# Altium schematic symbol library MC1.SchLib: 70 symbols (part 2 of 3)
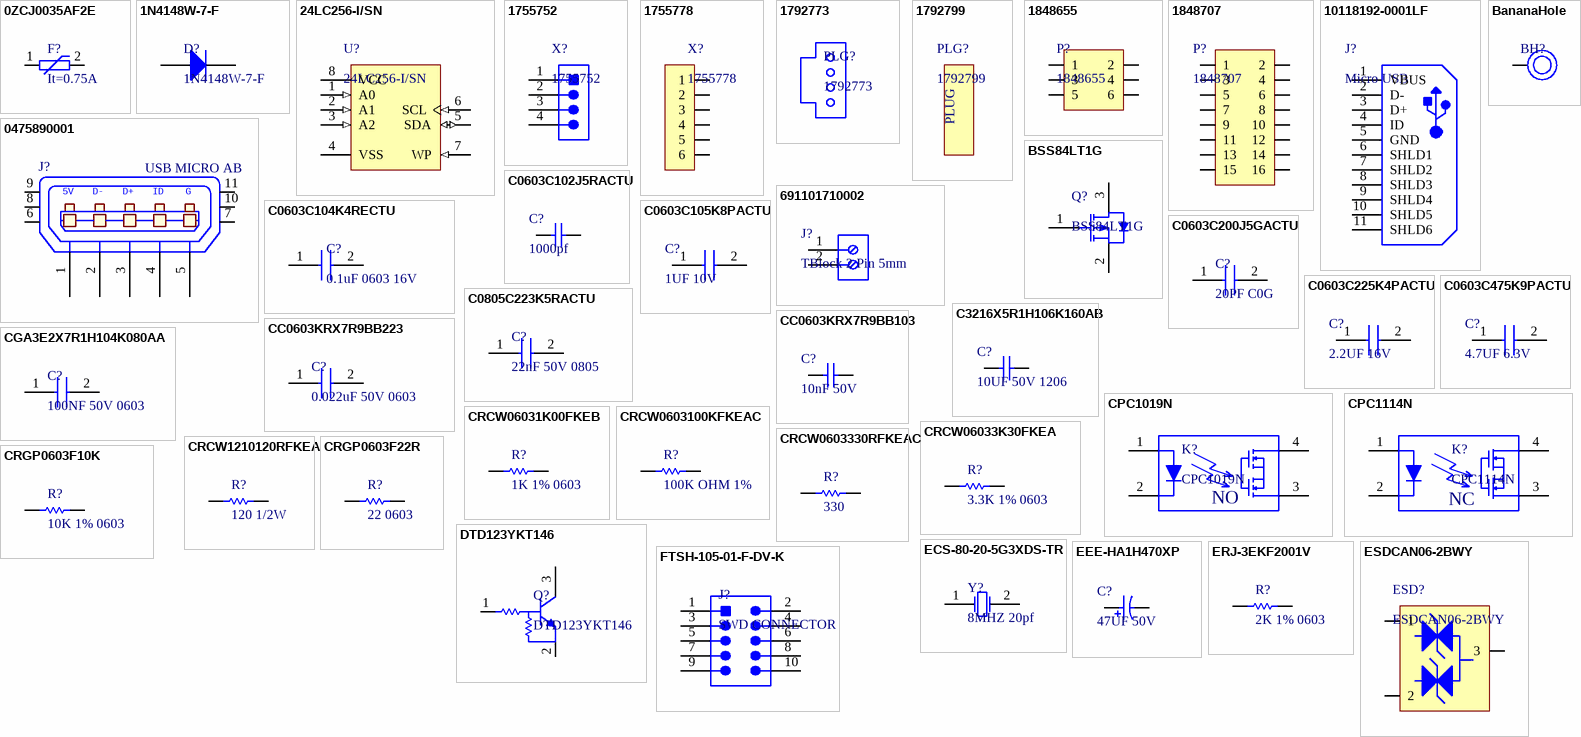
[diagram p2: symbols 0ZCJ0035AF2E to FTSH-105-01-F-DV-K]

## CPC1019N
designator K?
Relay SSR 50mA 1.4V DC-IN 0.75A 60V AC-OUT 4-Pin SOP Tube; Manufacturer: Ixys Clare; Output Current: 750mA; Throw Configuration: SPST; Isolation Voltage: 1.5kV; Supplier 1: Mouser; Supplier Part Number 1: 849-CPC1019N; Manufacturer Part Number: CPC1019N; RoHS: Yes; Category: Solid State Relays; Stock 1: 6539; Pricing 1: 1=1.76000, 10=1.61000, 20=1.47000, 50=1.41000, 100=1.34000, 200=1.19000 (USD); Mount: Surface Mount; Case/Package: SOP; Number of Pins: 4; Min Operating Temperature: -40°C; Max Operating Temperature: 85°C; Packaging: Rail/Tube; Package Quantity: 100; Termination: Gull Wing; Max Output Voltage: 60V; Input Current: 50mA; Length: 4.089mm; Height: 2.184mm; Width: 3.8mm; Radiation Hardening: No; ComponentLink1URL: http://components.arrow.com/part/dataview/0323_06647336?src-supplier=Arrow+Europe; ComponentLink1Description: http://components.arrow.com/part/dataview/0323_06647336?src-supplier=Arrow+Europe; ComponentLink2URL: http://www.mouser.com/ds/2/205/CPC1019N-594134.pdf?src-supplier=Mouser; ComponentLink2Description: http://www.mouser.com/ds/2/205/CPC1019N-594134.pdf?src-supplier=Mouser; ComponentLink3URL: http://components.arrow.com/part/dataview/47904908S477565N2018?src-supplier=Arrow; ComponentLink3Description: http://components.arrow.com/part/dataview/47904908S477565N2018?src-supplier=Arrow; ComponentLink4URL: http://www.ixysic.com/home/pdfs.nsf/www/CPC1019N.pdf/$file/CPC1019N.pdf?src-supplier=Digi-Key; ComponentLink4Description: http://www.ixysic.com/home/pdfs.nsf/www/CPC1019N.pdf/$file/CPC1019N.pdf?src-supplier=Digi-Key
footprint SOP254P610X206-4N (SOP, 4-Leads, Body 4.09x3.81mm, Pitch 2.54mm, IPC Medium Density)
pins: 1, 2, 3, 4
text: NO

## CPC1114N
designator K?
SINGLE-POLE, NORMALLY CLOSED4-LEAD SOP OPTOMOS RELAY; Manufacturer: Ixys Clare; Supplier 1: Mouser; Supplier Part Number 1: 849-CPC1114N; Manufacturer Part Number: CPC1114N; RoHS: Yes; Category: Solid State Relays; Stock 1: 6476; Pricing 1: 1=1.34000, 10=1.26000, 20=1.12000, 50=1.06000, 100=1.00000, 200=0.89600 (USD); Case/Package: SOP; Package Quantity: 100; Radiation Hardening: No; Lead Free: Lead Free; ComponentLink1URL: https://datasheet.ciiva.com/15261/cpc1114n-15261697.pdf?src-supplier=Arrow+Europe; ComponentLink1Description: https://datasheet.ciiva.com/15261/cpc1114n-15261697.pdf?src-supplier=Arrow+Europe
footprint SOP254P610X206-4N (SOP, 4-Leads, Body 4.09x3.81mm, Pitch 2.54mm, IPC Medium Density)
pins: 1, 2, 3, 4
text: NC

## CRCW06031K00FKEB
designator R?, comment 1K 1% 0603
Res Thick Film 0603 1K Ohm 1% 0.1W(1/10W) ±100ppm/C Molded SMD Automotive Paper T/R; Manufacturer: Vishay Dale; Manufacturer Part Number: CRCW06031K00FKEB; Resistance: 1kR; Power Rating: 100mW; Temperature Coefficient: 100ppm/°C; Voltage Rating: 75V; Supplier 1: Mouser; Supplier Part Number 1: 71-CRCW06031K00FKEB; RoHS: Yes; Category: Chip SMD Resistors; Stock 1: 40792; Pricing 1: 1=0.10000, 10=0.04000, 100=0.01600, 1000=0.01100, 10000=0.00600, 30000=0.00400 (USD); Mount: Surface Mount; Case/Package: 0603; Weight: 7.1E-05oz; Case Code (Imperial): 0603; Case Code (Metric): 1608; Contact Plating: Tin; Min Operating Temperature: -55°C; Max Operating Temperature: 155°C; Packaging: Tape and Reel; Tolerance: 1%; Composition: Thick Film; Termination: SMD/SMT; Voltage Rating (DC): 75V; Package Quantity: 10000; Max Power Dissipation: 100mW; Number of Terminations: 2; Military Standard: Not; Features: Automotive AEC-Q200; Length: 1.55mm; Height: 0.02inch; Width: 0.85mm; Depth: 0.85mm; Radiation Hardening: No; Lead Free: Lead Free; REACH SVHC: Unknown; ComponentLink1URL: https://datasheet.ciiva.com/5549/dcrcwe3-109170-5549464.pdf?src-supplier=Mouser; ComponentLink1Description: https://datasheet.ciiva.com/5549/dcrcwe3-109170-5549464.pdf?src-supplier=Mouser; ComponentLink2URL: https://datasheet.ciiva.com/3257/dcrcwe3-3257134.pdf?src-supplier=Avnet; ComponentLink2Description: https://datasheet.ciiva.com/3257/dcrcwe3-3257134.pdf?src-supplier=Avnet
footprint RESC1608X55X30NL10T20_B (Chip Resistor, 2-Leads, Body 1.7x0.95mm, IPC Medium Density)
pins: 1, 2

## CRCW06033K30FKEA
designator R?, comment 3.3K 1% 0603
RES SMD 3.3K OHM 1% 1/10W 0603; Manufacturer: Vishay; Manufacturer Part Number: CRCW06033K30FKEA; Resistance: 3.3kR; Temperature Coefficient: 100ppm/°C; Power Rating: 100mW; Voltage Rating: 75V; Supplier 1: Mouser; Supplier Part Number 1: 71-CRCW0603-3.3K-E3; RoHS: Yes; Category: Chip SMD Resistors; Stock 1: 44502; Pricing 1: 1=0.10000, 10=0.03700, 100=0.02000, 500=0.01200, 1000=0.00600, 5000=0.00500 (USD); Mount: Surface Mount; Case/Package: 0603; Weight: 7.1E-05oz; Case Code (Imperial): 0603; Case Code (Metric): 1608; Contact Plating: Tin,Lead; Min Operating Temperature: -55°C; Max Operating Temperature: 155°C; Tolerance: 1%; Packaging: Tape and Reel; Composition: Thick Film; Voltage Rating (DC): 75V; Number of Terminations: 2; Max Power Dissipation: 100mW; Package Quantity: 10; Termination: SMD/SMT; Military Standard: Not; Features: Automotive AEC-Q200; Working Voltage: 75V; Length: 1.55mm; Height: 0.45mm; Width: 0.85mm; Depth: 0.85mm; Radiation Hardening: No; Lead Free: Lead Free; REACH SVHC: Unknown; ComponentLink1URL: https://datasheet.ciiva.com/11808/0900766b80d98afc-11808705.pdf?src-supplier=RSComponents; ComponentLink1Description: https://datasheet.ciiva.com/11808/0900766b80d98afc-11808705.pdf?src-supplier=RSComponents; ComponentLink2URL: https://datasheet.ciiva.com/26314/fld-crcw-e3-data-en-26314711.pdf?src-supplier=Distrelec; ComponentLink2Description: https://datasheet.ciiva.com/26314/fld-crcw-e3-data-en-26314711.pdf?src-supplier=Distrelec; ComponentLink3URL: https://datasheet.ciiva.com/16200/dcrcwe3-16200585.pdf?src-supplier=Future+Electronics; ComponentLink3Description: https://datasheet.ciiva.com/16200/dcrcwe3-16200585.pdf?src-supplier=Future+Electronics; ComponentLink4URL: https://datasheet.ciiva.com/7672/1720486-7672906.pdf?src-supplier=Element14; ComponentLink4Description: https://datasheet.ciiva.com/7672/1720486-7672906.pdf?src-supplier=Element14; ComponentLink5URL: https://datasheet.ciiva.com/7673/1720486-7673146.pdf?src-supplier=Element14; ComponentLink5Description: https://datasheet.ciiva.com/7673/1720486-7673146.pdf?src-supplier=Element14; ComponentLink6URL: https://datasheet.ciiva.com/16893/dcrcw-16893324.pdf?src-supplier=Avnet+Europe; ComponentLink6Description: https://datasheet.ciiva.com/16893/dcrcw-16893324.pdf?src-supplier=Avnet+Europe
footprint RESC1608X55X30NL10T20_B (Chip Resistor, 2-Leads, Body 1.7x0.95mm, IPC Medium Density)
pins: 1, 2

## CRCW0603100KFKEAC
designator R?, comment 100K OHM 1%
RES SMD 100K OHM 1% 1/10W 0603; Manufacturer: Vishay; Manufacturer Part Number: CRCW0603100KFKEAC; Power Rating: 100mW; Resistance: 100kR; Temperature Coefficient: 100ppm/°C; RoHS: Yes; Category: Resistors; Stock 1: 901833; Pricing 1: 1=0.10000, 10=0.03300, 100=0.01300, 500=0.00800, 1000=0.00500, 5000=0.00500, 10000=0.00400 (USD); Mount: Surface Mount; Case/Package: Molded; Contact Plating: Tin; Min Operating Temperature: -55°C; Max Operating Temperature: 155°C; Tolerance: 1%; Composition: Thick Film; Termination: Wraparound; Length: 1.55mm; Lead Free: Lead Free; ComponentLink1URL: http://www.vishay.com/docs/28773/crcwce3.pdf?src-supplier=Digi-Key; ComponentLink1Description: http://www.vishay.com/docs/28773/crcwce3.pdf?src-supplier=Digi-Key; ComponentLink2URL: http://www.vishay.com/docs/20035/dcrcwe3.pdf?src-supplier=Avnet+Asia; ComponentLink2Description: http://www.vishay.com/docs/20035/dcrcwe3.pdf?src-supplier=Avnet+Asia; Supplier 1: Mouser; Supplier Part Number 1: 71-CRCW0603100KFKEAC
footprint RESC1608X55X30NL10T20_B (Chip Resistor, 2-Leads, Body 1.7x0.95mm, IPC Medium Density)
pins: 1, 2

## CRCW0603330RFKEAC
designator R?, comment 330
RES SMD 330 OHM 1% 1/10W 0603; Manufacturer: Vishay Semiconductors; Manufacturer Part Number: CRCW0603330RFKEAC; Resistance: 330R; Power Rating: 100mW; Temperature Coefficient: 100ppm/°C; Supplier 1: Mouser; RoHS: Yes; Category: Resistors; Stock 1: 108002; Pricing 1: 1=0.10000, 10=0.03000, 100=0.01200, 500=0.00700, 1000=0.00400, 5000=0.00400, 10000=0.00300 (USD); Mount: Surface Mount; Case/Package: Molded; Contact Plating: Tin; Min Operating Temperature: -55°C; Max Operating Temperature: 155°C; Composition: Thick Film; Termination: Wraparound; Tolerance: 1%; Length: 1.55mm; Lead Free: Lead Free; ComponentLink1URL: http://www.vishay.com/docs/28773/crcwce3.pdf?src-supplier=Digi-Key; ComponentLink1Description: http://www.vishay.com/docs/28773/crcwce3.pdf?src-supplier=Digi-Key; ComponentLink2URL: http://www.vishay.com/docs/20035/dcrcwe3.pdf?src-supplier=Avnet+Asia; ComponentLink2Description: http://www.vishay.com/docs/20035/dcrcwe3.pdf?src-supplier=Avnet+Asia; Supplier Part Number 1: 71-CRCW0603330RFKEAC
footprint RESC1608X55X30NL10T20_B (Chip Resistor, 2-Leads, Body 1.7x0.95mm, IPC Medium Density)
pins: 1, 2

## CRCW1210120RFKEA
designator R?, comment 120 1/2W
Thick Film Resistors - SMD 1/2watt 120ohms 1%; Manufacturer: Vishay; Manufacturer Part Number: CRCW1210120RFKEA; Resistance: 120R; Temperature Coefficient: 100ppm/°C; Power Rating: 500mW; Voltage Rating: 200V; Supplier 1: Mouser; Supplier Part Number 1: 71-CRCW1210F-120-E3; RoHS: Yes; Category: Chip SMD Resistors; Stock 1: 16273; Pricing 1: 1=0.25000, 10=0.21500, 100=0.08400, 1000=0.03200, 5000=0.02600, 10000=0.02400 (USD); Case/Package: 1210; Weight: 0.000564oz; Case Code (Metric): 3225; Case Code (Imperial): 1210; Contact Plating: Tin; Min Operating Temperature: -55°C; Max Operating Temperature: 155°C; Tolerance: 1%; Packaging: Tape and Reel; Package Quantity: 1; Composition: Thick Film; Voltage Rating (DC): 200V; Number of Terminations: 2; Max Power Dissipation: 500mW; Termination: SMD/SMT; Military Standard: Not; Features: Automotive AEC-Q200; Length: 3.2mm; Height: 0.024inch; Width: 0.098inch; Depth: 2.5mm; Radiation Hardening: No; Lead Free: Lead Free; REACH SVHC: Unknown; ComponentLink1URL: https://datasheet.ciiva.com/8899/dcrcwe3-8899640.pdf?src-supplier=Avnet; ComponentLink1Description: https://datasheet.ciiva.com/8899/dcrcwe3-8899640.pdf?src-supplier=Avnet; ComponentLink2URL: https://datasheet.ciiva.com/7777/1697337-7777595.pdf?src-supplier=Element14; ComponentLink2Description: https://datasheet.ciiva.com/7777/1697337-7777595.pdf?src-supplier=Element14; ComponentLink3URL: https://datasheet.ciiva.com/8897/dcrcwe3-8897165.pdf?src-supplier=Avnet; ComponentLink3Description: https://datasheet.ciiva.com/8897/dcrcwe3-8897165.pdf?src-supplier=Avnet; ComponentLink4URL: https://datasheet.ciiva.com/5549/dcrcwe3-109170-5549774.pdf?src-supplier=Mouser; ComponentLink4Description: https://datasheet.ciiva.com/5549/dcrcwe3-109170-5549774.pdf?src-supplier=Mouser
footprint RESC3225X60X45NL20T20 (Chip Resistor, 2-Leads, Body 3.20x2.50mm, IPC Medium Density)
pins: 1, 2

## CRGP0603F10K
designator R?, comment 10K 1% 0603
CRGP 0603 10K 1%; Manufacturer: TE Connectivity; Manufacturer Part Number: CRGP0603F10K; Supplier 1: Mouser; RoHS: No; Stock 1: 12566; Pricing 1: 1=0.10000, 10=0.03400, 100=0.02700, 500=0.02500, 1000=0.02100, 5000=0.01900, 10000=0.01600, 25000=0.01500, 50000=0.01400 (USD); ComponentLink1URL: http://www.farnell.com/datasheets/2609222.pdf?src-supplier=Farnell; ComponentLink1Description: http://www.farnell.com/datasheets/2609222.pdf?src-supplier=Farnell; ComponentLink2URL: https://www.te.com/commerce/DocumentDelivery/DDEController?Action=srchrtrv&DocNm=9-1773463-9&DocType=DS&DocLang=English&src-supplier=Digi-Key; ComponentLink2Description: https://www.te.com/commerce/DocumentDelivery/DDEController?Action=srchrtrv&DocNm=9-1773463-9&DocType=DS&DocLang=English&src-supplier=Digi-Key; Supplier Part Number 1: 279-CRGP0603F10K
footprint RESC1608X55X30NL10T20_B (Chip Resistor, 2-Leads, Body 1.7x0.95mm, IPC Medium Density)
pins: 1, 2

## CRGP0603F22R
designator R?, comment 22 0603
SMD CRGP 0603 22R 1% SMD Resistor; Manufacturer: TE Connectivity; Manufacturer Part Number: CRGP0603F22R; Supplier 1: Mouser; RoHS: No; Stock 1: 14874; Pricing 1: 1=0.10000, 10=0.03400, 100=0.02700, 500=0.02500, 1000=0.02100, 5000=0.01900, 10000=0.01600, 25000=0.01500, 50000=0.01400 (USD); Supplier Part Number 1: 279-CRGP0603F22R
footprint RESC1608X55X30NL10T20_B (Chip Resistor, 2-Leads, Body 1.7x0.95mm, IPC Medium Density)
pins: 1, 2

## DTD123YKT146
designator Q?
TRANS PREBIAS NPN 200MW SMT3; Manufacturer: Rohm; Collector Emitter Voltage (VCEO): 300mV; Element Configuration: Single; hFE Min: 56; Max Collector Current: 500mA; Collector Emitter Breakdown Voltage: 50V; Transition Frequency: 200MHz; Supplier 1: Mouser; Supplier Part Number 1: 755-DTD123YKT146; Manufacturer Part Number: DTD123YKT146; RoHS: Yes; Category: BJTs; Stock 1: 8666; Pricing 1: 1=0.38000, 10=0.28800, 100=0.15600, 1000=0.11700, 3000=0.10100, 9000=0.09500 (USD); Mount: Surface Mount; Case/Package: SMD/SMT; Number of Pins: 3; Min Operating Temperature: -55°C; Max Operating Temperature: 150°C; Packaging: Tape and Reel; Package Quantity: 1; Max Power Dissipation: 200mW; Polarity: NPN; Power Dissipation: 200mW; Max Breakdown Voltage: 50V; Voltage Rating (DC): 50V; Current Rating: 500mA; Termination: SMD/SMT; Max Output Current: 500mA; Operating Supply Voltage: 50V; Continuous Collector Current: 500mA; Length: 2.9mm; Height: 1.1mm; Width: 1.6mm; Radiation Hardening: No; REACH SVHC: No SVHC; Lead Free: Lead Free; ComponentLink1URL: https://datasheet.ciiva.com/6356/dtd123yk-6356016.pdf?src-supplier=Digi-Key; ComponentLink1Description: https://datasheet.ciiva.com/6356/dtd123yk-6356016.pdf?src-supplier=Digi-Key; ComponentLink2URL: https://datasheet.ciiva.com/16616/dtd123yk-16616256.pdf?src-supplier=Avnet+Europe; ComponentLink2Description: https://datasheet.ciiva.com/16616/dtd123yk-16616256.pdf?src-supplier=Avnet+Europe; ComponentLink3URL: https://datasheet.ciiva.com/5782/1645233-5782035.pdf?src-supplier=Farnell; ComponentLink3Description: https://datasheet.ciiva.com/5782/1645233-5782035.pdf?src-supplier=Farnell; ComponentLink4URL: https://datasheet.ciiva.com/16953/0900766b8101ddb2-16953270.pdf?src-supplier=Allied+Electronics; ComponentLink4Description: https://datasheet.ciiva.com/16953/0900766b8101ddb2-16953270.pdf?src-supplier=Allied+Electronics; ComponentLink5URL: https://datasheet.ciiva.com/12316/dtd123yk-210516-12316106.pdf?src-supplier=Mouser; ComponentLink5Description: https://datasheet.ciiva.com/12316/dtd123yk-210516-12316106.pdf?src-supplier=Mouser; ComponentLink6URL: https://datasheet.ciiva.com/8029/1645233-8029419.pdf?src-supplier=Element14; ComponentLink6Description: https://datasheet.ciiva.com/8029/1645233-8029419.pdf?src-supplier=Element14; ComponentLink7URL: https://datasheet.ciiva.com/11210/dtd123yk-11210380.pdf?src-supplier=Avnet; ComponentLink7Description: https://datasheet.ciiva.com/11210/dtd123yk-11210380.pdf?src-supplier=Avnet
footprint SOT95P280X130-3N (SOT23, 3-Leads, Body 2.90x2.80mm, Pitch 0.95mm, IPC Medium Density)
pins: 1 B, 2 E, 3 C

## ECS-80-20-5G3XDS-TR
designator Y?, comment 8MHZ 20pf
CRYSTAL 8.0000MHZ 20PF SMD; Manufacturer: ECS International; Manufacturer Part Number: ECS-80-20-5G3XDS-TR; Frequency Tolerance: 30ppm; ESR (Equivalent Series Resistance): 60R; Frequency Stability: 100ppm; Supplier 1: Mouser; Supplier Part Number 1: 520-ECS-80-20-5GXT; RoHS: Yes; Category: Crystals; Stock 1: 4314; Pricing 1: 1=0.90000, 10=0.80500, 50=0.75300, 100=0.66500, 500=0.63000, 1000=0.52500 (USD); Mount: Surface Mount; Min Operating Temperature: -40°C; Max Operating Temperature: 125°C; Package Quantity: 1; Frequency: 8MHz; Load Capacitance: 20pF; Packaging: Tape and Reel; Tolerance: 30ppm; Termination: SMD/SMT; Length: 0.449inch; Height: 0.165inch; Width: 0.185inch; ComponentLink1URL: https://datasheet.ciiva.com/852/csm-7x-3l-852790.pdf?src-supplier=Digi-Key; ComponentLink1Description: https://datasheet.ciiva.com/852/csm-7x-3l-852790.pdf?src-supplier=Digi-Key; ComponentLink2URL: https://datasheet.ciiva.com/852/csm-7x-3l-852791.pdf?src-supplier=Digi-Key; ComponentLink2Description: https://datasheet.ciiva.com/852/csm-7x-3l-852791.pdf?src-supplier=Digi-Key; ComponentLink3URL: https://datasheet.ciiva.com/852/csm-7x-3l-852792.pdf?src-supplier=Digi-Key; ComponentLink3Description: https://datasheet.ciiva.com/852/csm-7x-3l-852792.pdf?src-supplier=Digi-Key
footprint HC49US
pins: 1, 2

## EEE-HA1H470XP
designator C?, comment 47UF 50V
EEE-HA Series 50 V 47 uF Ø 6.3 x 7.7 mm 105 °C SMT V-Chip Aluminum Electrolytic; Manufacturer: Panasonic; Manufacturer Part Number: EEE-HA1H470XP; Ripple Current: 63mA; Tolerance: 20%; Life (Hours): 1000Hour; Leakage Current: 23.5uA; Polarity: Polar; Lead Diameter: 0.65mm; Supplier 1: Mouser; Supplier Part Number 1: 667-EEE-HA1H470XP; RoHS: Yes; Category: Aluminum Electrolytic Capacitors; Stock 1: 2923; Pricing 1: 1=0.50000, 10=0.34700, 100=0.11500, 900=0.10900, 1800=0.09700, 9900=0.08900 (USD); Mount: Surface Mount,PCB; Case/Package: Radial; Number of Pins: 8; Contact Plating: Tin; Min Operating Temperature: -40°C; Max Operating Temperature: 105°C; Capacitance: 47uF; Voltage Rating (DC): 50V; Packaging: Tape and Reel; Package Quantity: 900; Voltage Rating: 50V; Termination: SMD/SMT; Voltage: 50V; Ripple Current (AC): 63mA; Diameter: 6.3mm; Length: 8mm; Height: 7.7mm; Height - Seated (Max): 0.303inch; Lead Pitch: 1.8mm; Width: 650um; Radiation Hardening: No; REACH SVHC: No SVHC; Lead Free: Lead Free; ComponentLink1URL: https://datasheet.ciiva.com/11777/0900766b8102e3f9-11777524.pdf?src-supplier=RSComponents; ComponentLink1Description: https://datasheet.ciiva.com/11777/0900766b8102e3f9-11777524.pdf?src-supplier=RSComponents; ComponentLink2URL: https://datasheet.ciiva.com/27052/1358776-27052072.pdf?src-supplier=Jameco; ComponentLink2Description: https://datasheet.ciiva.com/27052/1358776-27052072.pdf?src-supplier=Jameco; ComponentLink3URL: https://datasheet.ciiva.com/2983/aba0000ce3-2983989.pdf?src-supplier=Avnet; ComponentLink3Description: https://datasheet.ciiva.com/2983/aba0000ce3-2983989.pdf?src-supplier=Avnet; ComponentLink4URL: https://datasheet.ciiva.com/28691/1446029-28691286.pdf?src-supplier=Element14; ComponentLink4Description: https://datasheet.ciiva.com/28691/1446029-28691286.pdf?src-supplier=Element14; ComponentLink5URL: https://datasheet.ciiva.com/17536/aba0000ce3-17536201.pdf?src-supplier=Avnet+Europe; ComponentLink5Description: https://datasheet.ciiva.com/17536/aba0000ce3-17536201.pdf?src-supplier=Avnet+Europe; ComponentLink6URL: https://datasheet.ciiva.com/46387/1446029-46387354.pdf?src-supplier=Element14; ComponentLink6Description: https://datasheet.ciiva.com/46387/1446029-46387354.pdf?src-supplier=Element14; ComponentLink7URL: https://datasheet.ciiva.com/5949/1446029-5949851.pdf?src-supplier=Farnell; ComponentLink7Description: https://datasheet.ciiva.com/5949/1446029-5949851.pdf?src-supplier=Farnell; ComponentLink8URL: https://datasheet.ciiva.com/11675/aba0000ce3-11675947.pdf?src-supplier=Avnet; ComponentLink8Description: https://datasheet.ciiva.com/11675/aba0000ce3-11675947.pdf?src-supplier=Avnet; ComponentLink9URL: https://datasheet.ciiva.com/43459/1446029-43459867.pdf?src-supplier=Farnell; ComponentLink9Description: https://datasheet.ciiva.com/43459/1446029-43459867.pdf?src-supplier=Farnell; ComponentLink10URL: https://datasheet.ciiva.com/28691/1446029-28691277.pdf?src-supplier=Element14; ComponentLink10Description: https://datasheet.ciiva.com/28691/1446029-28691277.pdf?src-supplier=Element14; ComponentLink11URL: https://datasheet.ciiva.com/14605/70256712-14605119.pdf?src-supplier=Allied+Electronics; ComponentLink11Description: https://datasheet.ciiva.com/14605/70256712-14605119.pdf?src-supplier=Allied+Electronics; ComponentLink12URL: https://datasheet.ciiva.com/16433/aba0000ce3-16433439.pdf?src-supplier=Future+Electronics; ComponentLink12Description: https://datasheet.ciiva.com/16433/aba0000ce3-16433439.pdf?src-supplier=Future+Electronics; ComponentLink13URL: https://datasheet.ciiva.com/30227/33aba0000ce3-30227599.pdf?src-supplier=Onlinecomponents.com; ComponentLink13Description: https://datasheet.ciiva.com/30227/33aba0000ce3-30227599.pdf?src-supplier=Onlinecomponents.com
footprint PNSC-EEE-HA1H470XP-2_V (SMD, 2-Leads, Body 6.6x6.6mm, Height 8mm)
pins: 1, 2

## ERJ-3EKF2001V
designator R?, comment 2K 1% 0603
RES SMD 2K OHM 1% 1/10W 0603; Manufacturer: Panasonic; Manufacturer Part Number: ERJ-3EKF2001V; Resistance: 2kR; Temperature Coefficient: 100ppm/°C; Power Rating: 100mW; Voltage Rating: 75V; Voltage Rating (DC): 50V; Supplier 1: Mouser; Supplier Part Number 1: 667-ERJ-3EKF2001V; RoHS: Yes; Category: Chip SMD Resistors; Stock 1: 377285; Pricing 1: 1=0.10000, 10=0.06400, 100=0.02600, 1000=0.01100, 5000=0.00700, 10000=0.00600 (USD); Mount: Surface Mount; Case/Package: 0603; Case Code (Metric): 1608; Case Code (Imperial): 0603; Contact Plating: Tin; Min Operating Temperature: -55°C; Max Operating Temperature: 155°C; Packaging: Tape and Reel; Tolerance: 1%; Composition: Thick Film; Termination: SMD/SMT; Package Quantity: 1; Number of Terminations: 2; Max Power Dissipation: 100mW; Military Standard: Not; Features: Automotive AEC-Q200; Length: 1.6mm; Height: 0.022inch; Width: 0.031inch; Depth: 0.8mm; Radiation Hardening: No; Lead Free: Lead Free; REACH SVHC: No SVHC; ComponentLink1URL: https://datasheet.ciiva.com/16200/aoa0000ce2-16200501.pdf?src-supplier=Future+Electronics; ComponentLink1Description: https://datasheet.ciiva.com/16200/aoa0000ce2-16200501.pdf?src-supplier=Future+Electronics; ComponentLink2URL: https://datasheet.ciiva.com/43460/1678782-43460485.pdf?src-supplier=Farnell; ComponentLink2Description: https://datasheet.ciiva.com/43460/1678782-43460485.pdf?src-supplier=Farnell; ComponentLink3URL: https://datasheet.ciiva.com/28673/1678782-28673990.pdf?src-supplier=Element14; ComponentLink3Description: https://datasheet.ciiva.com/28673/1678782-28673990.pdf?src-supplier=Element14; ComponentLink4URL: https://datasheet.ciiva.com/46377/1678782-46377366.pdf?src-supplier=Element14; ComponentLink4Description: https://datasheet.ciiva.com/46377/1678782-46377366.pdf?src-supplier=Element14; ComponentLink5URL: https://datasheet.ciiva.com/30064/aoa0000ce2-30064920.pdf?src-supplier=Onlinecomponents.com; ComponentLink5Description: https://datasheet.ciiva.com/30064/aoa0000ce2-30064920.pdf?src-supplier=Onlinecomponents.com; ComponentLink6URL: https://datasheet.ciiva.com/16771/70260748-16771369.pdf?src-supplier=Allied+Electronics; ComponentLink6Description: https://datasheet.ciiva.com/16771/70260748-16771369.pdf?src-supplier=Allied+Electronics; ComponentLink7URL: https://datasheet.ciiva.com/17214/aoa0000ce2-17214393.pdf?src-supplier=Avnet+Europe; ComponentLink7Description: https://datasheet.ciiva.com/17214/aoa0000ce2-17214393.pdf?src-supplier=Avnet+Europe; ComponentLink8URL: https://datasheet.ciiva.com/6082/1678782-6082059.pdf?src-supplier=Farnell; ComponentLink8Description: https://datasheet.ciiva.com/6082/1678782-6082059.pdf?src-supplier=Farnell; ComponentLink9URL: https://datasheet.ciiva.com/24027/aoa0000ce2-24027453.pdf?src-supplier=Mouser; ComponentLink9Description: https://datasheet.ciiva.com/24027/aoa0000ce2-24027453.pdf?src-supplier=Mouser
footprint RESC1608X55X30NL10T20_B (Chip Resistor, 2-Leads, Body 1.7x0.95mm, IPC Medium Density)
pins: 1, 2

## ESDCAN06-2BWY
designator ESD?
TVS DIODE 35V 59V SOT323-3; Manufacturer: STMicroelectronics; Supplier 1: Mouser; Supplier Part Number 1: 511-ESDCAN06-2BWY; Manufacturer Part Number: ESDCAN06-2BWY; RoHS: No; Category: TVS Diodes; Stock 1: 4203; Pricing 1: 1=0.42000, 10=0.29500, 100=0.13600, 1000=0.10400, 3000=0.08900, 9000=0.08100 (USD); ComponentLink1URL: https://www.st.com/resource/en/datasheet/esdcan06-2bwy.pdf?src-supplier=Digi-Key; ComponentLink1Description: https://www.st.com/resource/en/datasheet/esdcan06-2bwy.pdf?src-supplier=Digi-Key
footprint SOT65P210X110-3N (SOT23, 3-Leads, Body 2.00x2.10mm, Pitch 0.65mm, IPC Medium Density)
pins: 1, 2, 3

## FTSH-105-01-F-DV-K
designator J?, comment SWD CONNECTOR
SAMTEC - FTSH-105-01-F-DV-K - HEADER, 1.27 MM, SURFACE MOUNT, 10 CONTACTS; Number of Contacts: 10; Connector Type: Male Pin; Max Current Rating: 1.75A; Pitch: 1.27mm; Row Spacing: 0.05inch; Supplier 1: Mouser; Supplier Part Number 1: 200-FTSH10501FDVK; Manufacturer: Samtec; Manufacturer Part Number: FTSH-105-01-F-DV-K; RoHS: Yes; Category: Headers and Wire Housings; Stock 1: 5484; Pricing 1: 1=3.02000, 10=2.55000, 25=2.20000, 100=1.97000, 250=1.86000, 500=1.62000 (USD); Mount: Surface Mount; Contact Plating: Gold; Contact Material: Copper,Bronze; Housing Color: Black; Housing Material: Polymer; Color: Black; Min Operating Temperature: -55°C; Max Operating Temperature: 125°C; Number of Rows: 2; Termination: Solder; Packaging: Rail/Tube; Orientation: Straight; Number of Positions: 10; Package Quantity: 1; Length: 15.2mm; Height: 3.3mm; Depth: 3.43mm; Contact Mating Length: 0.12inch; Radiation Hardening: No; Lead Free: Lead Free; ComponentLink1URL: https://datasheet.ciiva.com/19461/2046846-19461026.pdf?src-supplier=Jameco; ComponentLink1Description: https://datasheet.ciiva.com/19461/2046846-19461026.pdf?src-supplier=Jameco; ComponentLink2URL: https://datasheet.ciiva.com/738/ftsh-1xx-xx-xxx-dv-xxx-mkt-738998.pdf?src-supplier=Digi-Key; ComponentLink2Description: https://datasheet.ciiva.com/738/ftsh-1xx-xx-xxx-dv-xxx-mkt-738998.pdf?src-supplier=Digi-Key; ComponentLink3URL: https://datasheet.ciiva.com/10245/ftsh-mt-10245273.pdf?src-supplier=Avnet; ComponentLink3Description: https://datasheet.ciiva.com/10245/ftsh-mt-10245273.pdf?src-supplier=Avnet; ComponentLink4URL: https://datasheet.ciiva.com/16657/ftsh-mt-16657371.pdf?src-supplier=Avnet+Europe; ComponentLink4Description: https://datasheet.ciiva.com/16657/ftsh-mt-16657371.pdf?src-supplier=Avnet+Europe; ComponentLink5URL: https://datasheet.ciiva.com/15195/getdatasheetpartid-133463-15195260.pdf?src-supplier=Verical; ComponentLink5Description: https://datasheet.ciiva.com/15195/getdatasheetpartid-133463-15195260.pdf?src-supplier=Verical
footprint SMTC-FTSH-105-01-L-DV-K_V (CONN, 10-Leads, Body 6.35x3.43mm, Pitch 1.27mm)
pins: 1, 2, 3, 4, 5, 6, 7, 8, 9, 10

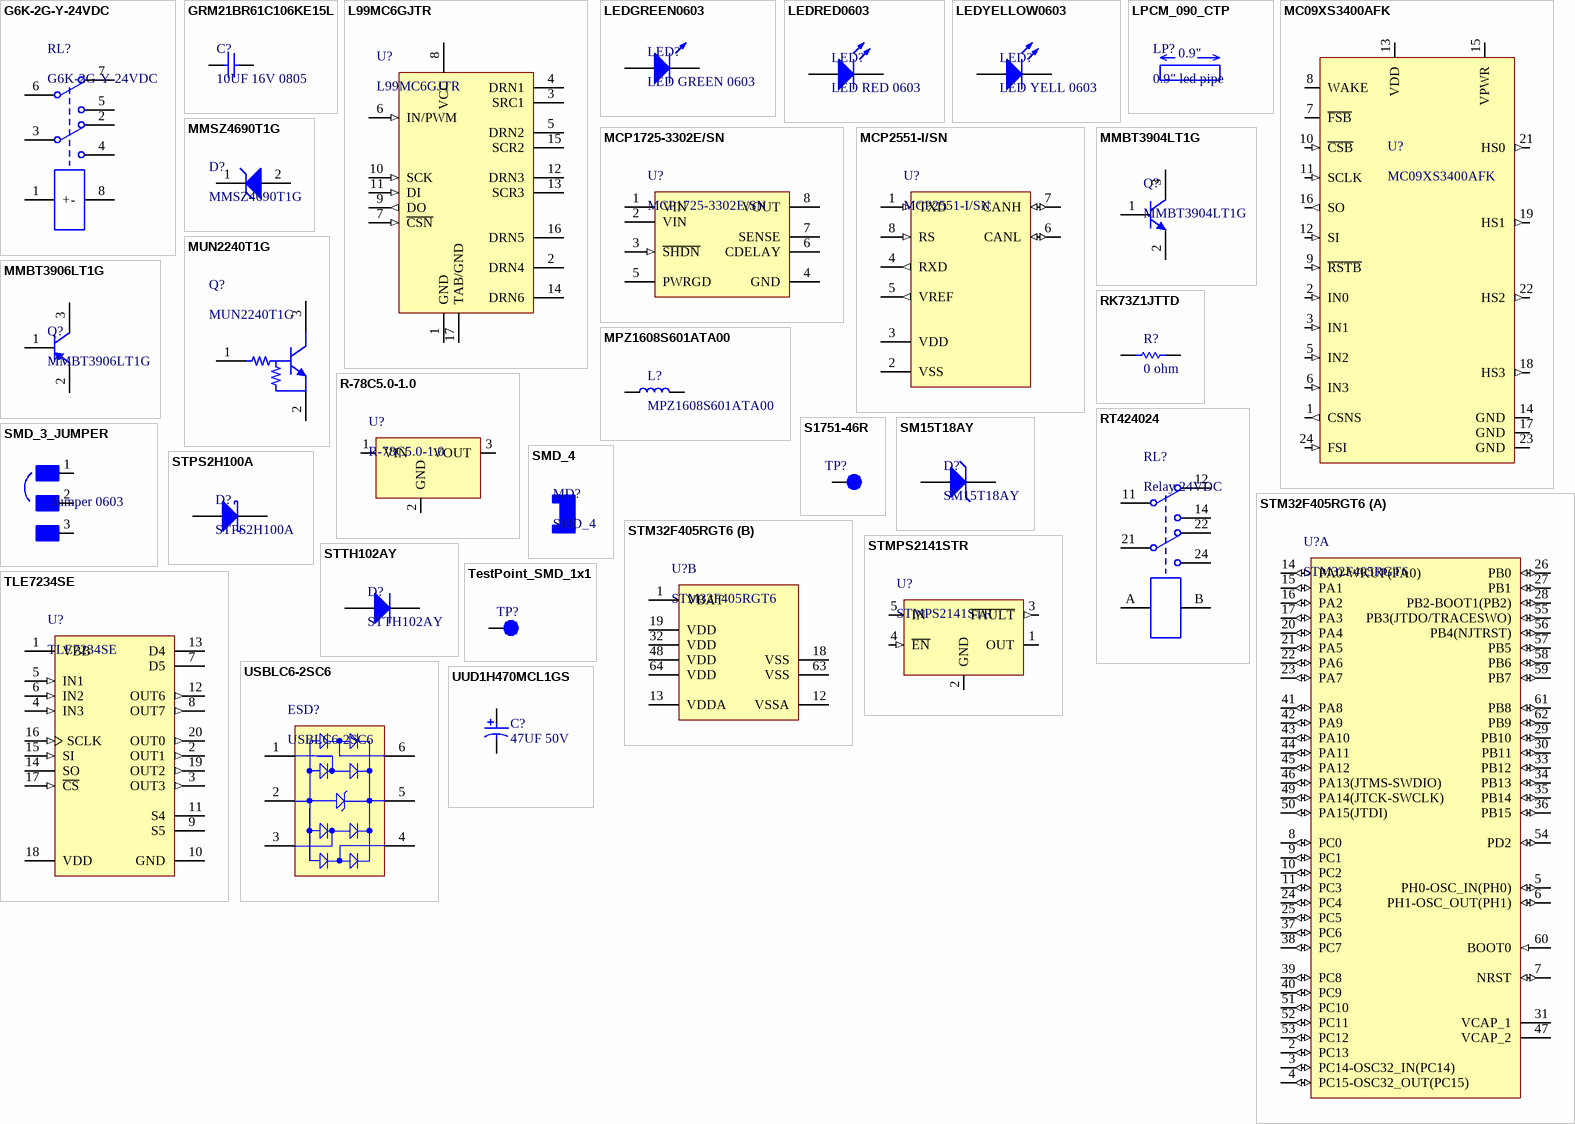
[diagram p1: symbols G6K-2G-Y-24VDC to UUD1H470MCL1GS]

## G6K-2G-Y-24VDC
designator RL?
Electromechanical Relay DPDT 1A 24VDC 5.22KOhm Surface Mount; Manufacturer: Omron; Manufacturer Part Number: G6K-2F-YDC24; Coil Current: 4.6mA; Coil Resistance: 5.22kR; Coil Voltage (DC): 24V; Max Voltage Rating (AC): 125V; Max Voltage Rating (DC): 60V; Operate Time: 3ms; Coil Type: Non-Latching; Relay Type: Telecom; Coil Power: 100mW; Supplier 1: Mouser; Supplier Part Number 1: 653-G6K-2F-Y-DC24; RoHS: Yes; Category: Signal Relays; Mount: Surface Mount; Number of Pins: 8; Weight: 0.024692oz; Contact Material: Gold,Silver; Min Operating Temperature: -40°C; Max Operating Temperature: 70°C; Packaging: Rail/Tube; Throw Configuration: DPDT; Max Current Rating: 1A; Contact Current Rating: 1A; Termination: Gull Wing; Package Quantity: 50; Release Time: 3ms; Power Consumption: 100mW; Voltage Rating (AC): 125V; Voltage Rating (DC): 60V; Length: 10mm; Depth: 7.8mm; Radiation Hardening: No; Lead Free: Lead Free; ComponentLink1URL: https://datasheet.ciiva.com/30066/81en-g6k-30066045.pdf?src-supplier=Onlinecomponents.com; ComponentLink1Description: https://datasheet.ciiva.com/30066/81en-g6k-30066045.pdf?src-supplier=Onlinecomponents.com
footprint G6K-2F-Y (Footprint for G6K-2F-Y Omrom relays)
pins: 1 +, 2, 3, 4, 5, 6, 7, 8 -

## GRM21BR61C106KE15L
designator C?, comment 10UF 16V 0805
CAP CER 10UF 16V X5R 0805; Manufacturer: Murata; Manufacturer Part Number: GRM21BR61C106KE15L; Material: Ceramic; Tolerance: 10%; Supplier 1: Mouser; Supplier Part Number 1: 81-GRM21BR61C106KE15; RoHS: Yes; Category: Ceramic Capacitors; Stock 1: 1115526; Pricing 1: 1=0.31000, 10=0.21500, 100=0.12000, 500=0.08600, 1000=0.07500, 3000=0.06200 (USD); Mount: Surface Mount; Case/Package: 0805; Case Code (Imperial): 0805; Case Code (Metric): 2012; Min Operating Temperature: -55°C; Max Operating Temperature: 85°C; Capacitance: 10uF; Packaging: Tape and Reel; Voltage Rating: 16V; Dielectric: X5R; Voltage Rating (DC): 16V; Package Quantity: 1; Termination: SMD/SMT; Voltage: 16V; Length: 2mm; Height: 1.25mm; Width: 1.25mm; Thickness: 0.053inch; Depth: 1.25mm; Radiation Hardening: No; REACH SVHC: No SVHC; Lead Free: Lead Free; ComponentLink1URL: https://datasheet.ciiva.com/2989/product-2989696.pdf?src-supplier=Avnet; ComponentLink1Description: https://datasheet.ciiva.com/2989/product-2989696.pdf?src-supplier=Avnet; ComponentLink2URL: https://datasheet.ciiva.com/3777/1956grm21br61c106ke1523-3777137.pdf?src-supplier=Arrow; ComponentLink2Description: https://datasheet.ciiva.com/3777/1956grm21br61c106ke1523-3777137.pdf?src-supplier=Arrow; ComponentLink3URL: https://datasheet.ciiva.com/7719/1747468-7719090.pdf?src-supplier=Element14; ComponentLink3Description: https://datasheet.ciiva.com/7719/1747468-7719090.pdf?src-supplier=Element14; ComponentLink4URL: https://datasheet.ciiva.com/23628/460993-23628598.pdf?src-supplier=Newark; ComponentLink4Description: https://datasheet.ciiva.com/23628/460993-23628598.pdf?src-supplier=Newark; ComponentLink5URL: https://datasheet.ciiva.com/29202/450891-da-01-de-vs-chip-kond-0805-10-0-uf-10pr-16-0v-x5r-29202696.pdf?src-supplier=Conrad; ComponentLink5Description: https://datasheet.ciiva.com/29202/450891-da-01-de-vs-chip-kond-0805-10-0-uf-10pr-16-0v-x5r-29202696.pdf?src-supplier=Conrad; ComponentLink6URL: https://datasheet.ciiva.com/29199/454607-da-01-en-vs-kondensator-0805-29199611.pdf?src-supplier=Conrad; ComponentLink6Description: https://datasheet.ciiva.com/29199/454607-da-01-en-vs-kondensator-0805-29199611.pdf?src-supplier=Conrad; ComponentLink7URL: https://datasheet.ciiva.com/2989/product-2989697.pdf?src-supplier=Avnet; ComponentLink7Description: https://datasheet.ciiva.com/2989/product-2989697.pdf?src-supplier=Avnet; ComponentLink8URL: https://datasheet.ciiva.com/137/partnumbering-e-01-137917.pdf?src-supplier=Digi-Key; ComponentLink8Description: https://datasheet.ciiva.com/137/partnumbering-e-01-137917.pdf?src-supplier=Digi-Key; ComponentLink9URL: https://datasheet.ciiva.com/137/partnumbering-e-01-137918.pdf?src-supplier=Digi-Key; ComponentLink9Description: https://datasheet.ciiva.com/137/partnumbering-e-01-137918.pdf?src-supplier=Digi-Key; ComponentLink10URL: https://datasheet.ciiva.com/137/partnumbering-e-01-137919.pdf?src-supplier=Digi-Key; ComponentLink10Description: https://datasheet.ciiva.com/137/partnumbering-e-01-137919.pdf?src-supplier=Digi-Key
footprint CAPC2012X14M (Chip Capacitor, 2-Leads, Body 2.00x1.25mm, IPC Low Density)
pins: 1, 2

## L99MC6GJTR
designator U?
IC HI/LO SIDE DVR 6CH POWERSSO16; Manufacturer: STMicroelectronics; Number of Outputs: 6; Interface: SPI; Max Output Current: 600mA; Fault Protection: Over Temperature; Supplier 1: Mouser; Supplier Part Number 1: 511-L99MC6GJTR; Manufacturer Part Number: L99MC6GJTR; RoHS: Yes; Category: Motor Drivers; Stock 1: 3165; Pricing 1: 1=2.51000, 10=2.13000, 100=1.70000, 500=1.49000, 1000=1.23000, 2500=1.15000 (USD); Number of Pins: 16; Min Operating Temperature: -40°C; Max Operating Temperature: 150°C; Packaging: Tape and Reel; ComponentLink1URL: http://www.st.com/st-web-ui/static/active/en/resource/technical/document/datasheet/DM00130912.pdf?src-supplier=Avnet; ComponentLink1Description: http://www.st.com/st-web-ui/static/active/en/resource/technical/document/datasheet/DM00130912.pdf?src-supplier=Avnet; ComponentLink2URL: http://www.st.com/content/ccc/resource/technical/document/datasheet/ba/55/91/a7/d6/2c/47/05/DM00130912.pdf/files/DM00130912.pdf/jcr:content/translations/en.DM00130912.pdf?src-supplier=Digi-Key; ComponentLink2Description: http://www.st.com/content/ccc/resource/technical/document/datasheet/ba/55/91/a7/d6/2c/47/05/DM00130912.pdf/files/DM00130912.pdf/jcr:content/translations/en.DM00130912.pdf?src-supplier=Digi-Key
footprint PowerSSO-16 (SSOP, 16-Leads, Body 4.90x3.90mm, Pitch 0.50mm, Thermal Pad 4.20x2.50mm, IPC Medium Density)
pins: 1 GND (power), 2 DRN4, 3 SRC1, 4 DRN1, 5 DRN2, 6 IN/PWM (in), 7 ~{CSN} (in), 8 VCC (power), 9 DO (out), 10 SCK (in), 11 DI (in), 12 DRN3, 13 SCR3, 14 DRN6, 15 SCR2, 16 DRN5, 17 TAB/GND (power)

## LEDGREEN0603
designator LED?, comment LED GREEN 0603
WURTH ELEKTRONIK - 150060GS75000 - LED, 0603, GREEN, 430MCD, 520NM; Manufacturer: Wurth Electronics; Viewing Angle: 140°; Lens Style: Clear,Rectangular; Forward Voltage: 3.2V; Forward Current: 30mA; Test Current: 20mA; Supplier 1: Mouser; Supplier Part Number 1: 710-150060GS75000; Manufacturer Part Number: 150060GS75000; RoHS: Yes; Category: LEDs; Stock 1: 24564; Pricing 1: 1=0.15000, 10=0.14200, 25=0.14200, 50=0.13300, 100=0.11400, 250=0.10000 (USD); Mount: Surface Mount; Case/Package: 0603; Color: Green; Case Code (Metric): 1608; Case Code (Imperial): 0603; Min Operating Temperature: -40°C; Max Operating Temperature: 85°C; Packaging: Tape and Reel; Luminous Intensity: 430mcd; Dominant Wavelength: 520nm; Package Quantity: 4000; Wavelength: 520nm; Length: 1.6mm; Height: 0.7mm; Width: 0.8mm; Lead Free: Lead Free; REACH SVHC: Unknown; ComponentLink1URL: https://datasheet.ciiva.com/29562/150060gs75000-29562868.pdf?src-supplier=Digi-Key; ComponentLink1Description: https://datasheet.ciiva.com/29562/150060gs75000-29562868.pdf?src-supplier=Digi-Key; ComponentLink2URL: https://datasheet.ciiva.com/29279/759427-da-01-en-chipled-0603-w-kl-gruen-150060gs75000-29279201.pdf?src-supplier=Conrad; ComponentLink2Description: https://datasheet.ciiva.com/29279/759427-da-01-en-chipled-0603-w-kl-gruen-150060gs75000-29279201.pdf?src-supplier=Conrad; ComponentLink3URL: https://datasheet.ciiva.com/29562/150060gs75000-29562869.pdf?src-supplier=Digi-Key; ComponentLink3Description: https://datasheet.ciiva.com/29562/150060gs75000-29562869.pdf?src-supplier=Digi-Key; ComponentLink4URL: https://datasheet.ciiva.com/29562/150060gs75000-29562870.pdf?src-supplier=Digi-Key; ComponentLink4Description: https://datasheet.ciiva.com/29562/150060gs75000-29562870.pdf?src-supplier=Digi-Key
footprint LED0603_GREEN (Chip LED, 2-Leads, Body 1.6x0.8mm, IPC Medium Density)
pins: 1 K, 2 A

## LEDRED0603
designator LED?, comment LED RED 0603
WURTH ELEKTRONIK - 150060RS75000 - LED, 0603, RED, 250MCD, 625NM; Manufacturer: Wurth Electronics; Lens Style: Clear,Rectangular; Forward Voltage: 2V; Viewing Angle: 140°; Forward Current: 30mA; Test Current: 20mA; Supplier 1: Mouser; Supplier Part Number 1: 710-150060RS75000; Manufacturer Part Number: 150060RS75000; RoHS: Yes; Category: LEDs; Stock 1: 84194; Pricing 1: 1=0.14000, 10=0.14000, 25=0.14000, 50=0.13300, 100=0.11400, 250=0.10000 (USD); Mount: Surface Mount; Case/Package: 0603; Color: Red; Case Code (Metric): 1608; Case Code (Imperial): 0603; Min Operating Temperature: -40°C; Max Operating Temperature: 85°C; Packaging: Cut Tape; Luminous Intensity: 250mcd; Dominant Wavelength: 625nm; Package Quantity: 1; Wavelength: 625nm; Length: 1.6mm; Height: 0.7mm; Width: 0.8mm; REACH SVHC: Unknown; ComponentLink1URL: https://datasheet.ciiva.com/29563/150060rs75000-29563040.pdf?src-supplier=Digi-Key; ComponentLink1Description: https://datasheet.ciiva.com/29563/150060rs75000-29563040.pdf?src-supplier=Digi-Key; ComponentLink2URL: https://datasheet.ciiva.com/29279/759428-da-01-en-chipled-0603-w-kl-rot-150060rs75000-29279196.pdf?src-supplier=Conrad; ComponentLink2Description: https://datasheet.ciiva.com/29279/759428-da-01-en-chipled-0603-w-kl-rot-150060rs75000-29279196.pdf?src-supplier=Conrad
footprint LED0603_RED (Chip LED, 2-Leads, Body 1.6x0.8mm, IPC Medium Density)
pins: 1 K, 2 A

## LEDYELLOW0603
designator LED?, comment LED YELL 0603
WURTH ELEKTRONIK - 150060YS75000 - LED, 0603, YELLOW, 120MCD, 590NM; Manufacturer: Wurth Electronics; Viewing Angle: 140°; Lens Style: Clear,Rectangular; Forward Voltage: 2V; Forward Current: 30mA; Test Current: 20mA; Supplier 1: Mouser; Supplier Part Number 1: 710-150060YS75000; Manufacturer Part Number: 150060YS75000; RoHS: Yes; Category: LEDs; Stock 1: 25592; Pricing 1: 1=0.14000, 10=0.13800, 25=0.13800, 50=0.12900, 100=0.11000, 250=0.10000 (USD); Mount: Surface Mount; Case/Package: 0603; Color: Yellow; Case Code (Metric): 1608; Case Code (Imperial): 0603; Min Operating Temperature: -40°C; Max Operating Temperature: 85°C; Packaging: Tape and Reel; Luminous Intensity: 120mcd; Dominant Wavelength: 590nm; Package Quantity: 4000; Wavelength: 590nm; Length: 1.6mm; Height: 0.7mm; Width: 0.8mm; REACH SVHC: Unknown; ComponentLink1URL: https://datasheet.ciiva.com/23843/150060ys75000-23843250.pdf?src-supplier=Newark; ComponentLink1Description: https://datasheet.ciiva.com/23843/150060ys75000-23843250.pdf?src-supplier=Newark; ComponentLink2URL: https://datasheet.ciiva.com/29279/759432-da-01-en-chipled-0603-w-kl-gelb-150060ys75000-29279206.pdf?src-supplier=Conrad; ComponentLink2Description: https://datasheet.ciiva.com/29279/759432-da-01-en-chipled-0603-w-kl-gelb-150060ys75000-29279206.pdf?src-supplier=Conrad; ComponentLink3URL: https://datasheet.ciiva.com/29563/150060ys75000-29563045.pdf?src-supplier=Digi-Key; ComponentLink3Description: https://datasheet.ciiva.com/29563/150060ys75000-29563045.pdf?src-supplier=Digi-Key; ComponentLink4URL: https://datasheet.ciiva.com/48430/150060ys75000-eng-tds-48430044.pdf?src-supplier=Distrelec; ComponentLink4Description: https://datasheet.ciiva.com/48430/150060ys75000-eng-tds-48430044.pdf?src-supplier=Distrelec; ComponentLink5URL: https://datasheet.ciiva.com/22656/1911348-22656951.pdf?src-supplier=Element14; ComponentLink5Description: https://datasheet.ciiva.com/22656/1911348-22656951.pdf?src-supplier=Element14; ComponentLink6URL: https://datasheet.ciiva.com/29563/150060ys75000-29563033.pdf?src-supplier=Digi-Key; ComponentLink6Description: https://datasheet.ciiva.com/29563/150060ys75000-29563033.pdf?src-supplier=Digi-Key
footprint LED0603_YELLOW (Chip LED, 2-Leads, Body 1.6x0.8mm, IPC Medium Density)
pins: 1 K, 2 A

## LPCM_090_CTP
designator LP?, comment 0.9" led pipe  (mechanical)
LED Light Pipes Round 4mm Litepipe .900"; Manufacturer: Visual Communications; Manufacturer Part Number: LPCM_090_CTP; Supplier 1: Mouser; Supplier Part Number 1: 593-LPCM090CTP; RoHS: Yes; Category: LEDs; Stock 1: 8497; Pricing 1: 1=0.72000, 10=0.55800, 25=0.46300, 100=0.39900, 250=0.35100, 500=0.30300 (USD); Color: Clear; Packaging: Bulk; Package Quantity: 1000; ComponentLink1URL: https://datasheet.ciiva.com/29556/lpcmdatasheet-29556743.pdf?src-supplier=Digi-Key; ComponentLink1Description: https://datasheet.ciiva.com/29556/lpcmdatasheet-29556743.pdf?src-supplier=Digi-Key
text: 0.9"

## MC09XS3400AFK
designator U?
Power Switch ICs - Power Distribution QUAD HIGH SIDE ESWITCH; Manufacturer: NXP Freescale; Number of Outputs: 4; Interface: SPI,Serial,Parallel; Nominal Supply Current: 7.2mA; Fault Protection: Over Voltage,Over Temperature; Max Supply Current: 10mA; Operating Supply Voltage: 20V; Supplier 1: Mouser; Supplier Part Number 1: 841-MC09XS3400AFK; Manufacturer Part Number: MC09XS3400AFK; RoHS: Yes; Category: Hot Swap Controllers; Stock 1: 354; Pricing 1: 1=7.84000, 10=7.08000, 25=6.36000, 100=5.87000, 250=5.77000, 500=5.11000 (USD); Mount: Surface Mount; Case/Package: QFN; Number of Pins: 24; Weight: 0.03274oz; Min Operating Temperature: -40°C; Max Operating Temperature: 125°C; Packaging: Tray; Package Quantity: 168; Output Configuration: High Side; Halogen Free: Halogen Free; ComponentLink1URL: https://datasheet.ciiva.com/12186/mc09xs3400-222130-12186694.pdf?src-supplier=Mouser; ComponentLink1Description: https://datasheet.ciiva.com/12186/mc09xs3400-222130-12186694.pdf?src-supplier=Mouser; ComponentLink2URL: https://datasheet.ciiva.com/6607/mc09xs3400-6607546.pdf?src-supplier=Digi-Key; ComponentLink2Description: https://datasheet.ciiva.com/6607/mc09xs3400-6607546.pdf?src-supplier=Digi-Key
footprint PQFN_24_12X12x2.1_0_9MM
pins: 1 CSNS (out), 2 IN0 (in), 3 IN1 (in), 5 IN2 (in), 6 IN3 (in), 7 ~{FSB} (oc), 8 WAKE, 9 ~{RSTB} (in), 10 ~{CSB} (in), 11 SCLK (in), 12 SI (in), 13 VDD (power), 14 GND (power), 15 VPWR (power), 16 SO (out), 17 GND (power), 18 HS3 (out), 19 HS1 (out), 21 HS0 (out), 22 HS2 (out), 23 GND (power), 24 FSI (in)

## MCP1725-3302E/SN
designator U?
IC REG LINEAR 3.3V 500MA 8SOIC; Manufacturer: Microchip; Number of Outputs: 1; Min Input Voltage: 2.3V; Max Input Voltage: 6V; Dropout Voltage: 210mV; Nominal Supply Current: 120uA; Quiescent Current: 220uA; Polarity: Positive; Accuracy: 2%; Output Type: Fixed; Sensing Method: Resistive; Supplier 1: Mouser; Supplier Part Number 1: 579-MCP1725-3302E/SN; Manufacturer Part Number: MCP1725-3302E/SN; RoHS: Yes; Category: Voltage Regulators - Linear; Stock 1: 1446; Pricing 1: 1=0.51000, 10=0.51000, 25=0.43000, 100=0.39000, 250=0.39000, 500=0.39000 (USD); Mount: Surface Mount; Case/Package: SOIC; Number of Pins: 8; Min Operating Temperature: -40°C; Max Operating Temperature: 125°C; Max Output Current: 500mA; Output Voltage: 3.3V; Output Current: 500mA; Packaging: Rail/Tube; Package Quantity: 100; Input Bias Current: 120uA; Min Output Voltage: 3.3V; Output Voltage Accuracy: 2%; Nominal Output Voltage: 3.3V; Length: 4.9mm; Height: 1.25mm; Width: 3.9mm; Radiation Hardening: No; REACH SVHC: No SVHC; Lead Free: Lead Free; ComponentLink1URL: https://datasheet.ciiva.com/23604/22026a-23604365.pdf?src-supplier=Newark; ComponentLink1Description: https://datasheet.ciiva.com/23604/22026a-23604365.pdf?src-supplier=Newark; ComponentLink2URL: https://datasheet.ciiva.com/8041/808903-8041399.pdf?src-supplier=Element14; ComponentLink2Description: https://datasheet.ciiva.com/8041/808903-8041399.pdf?src-supplier=Element14; ComponentLink3URL: https://datasheet.ciiva.com/16293/filehandler-aspxddocname-en520352-16293417.pdf?src-supplier=Future+Electronics; ComponentLink3Description: https://datasheet.ciiva.com/16293/filehandler-aspxddocname-en520352-16293417.pdf?src-supplier=Future+Electronics; ComponentLink4URL: https://datasheet.ciiva.com/15200/getdatasheetpartid-571495-15200267.pdf?src-supplier=Verical; ComponentLink4Description: https://datasheet.ciiva.com/15200/getdatasheetpartid-571495-15200267.pdf?src-supplier=Verical; ComponentLink5URL: https://datasheet.ciiva.com/2040/22026b-2040972.pdf?src-supplier=Digi-Key; ComponentLink5Description: https://datasheet.ciiva.com/2040/22026b-2040972.pdf?src-supplier=Digi-Key; ComponentLink6URL: https://datasheet.ciiva.com/8239/jp520352-8239277.pdf?src-supplier=Avnet; ComponentLink6Description: https://datasheet.ciiva.com/8239/jp520352-8239277.pdf?src-supplier=Avnet; ComponentLink7URL: https://datasheet.ciiva.com/14150/mcp1725-eng-tds-14150077.pdf?src-supplier=Distrelec; ComponentLink7Description: https://datasheet.ciiva.com/14150/mcp1725-eng-tds-14150077.pdf?src-supplier=Distrelec
footprint SOIC-SN8_M (SOIC, 8-Leads, Body 4.9x3.9mm, Pitch 1.27mm, IPC Low Density)
pins: 1 VIN (power), 2 VIN (power), 3 ~{SHDN} (in), 4 GND (power), 5 PWRGD (power), 6 CDELAY, 7 SENSE, 8 VOUT (power)

## MCP2551-I/SN
designator U?
IC TRANSCEIVER CAN HI-SPD 8-SOIC; Manufacturer: Microchip; Operating Supply Voltage: 5V; Data Rate: 1Mbps; Max Supply Voltage: 5.5V; Min Supply Voltage: 4.5V; Number of Transceivers: 1; Nominal Supply Current: 75mA; Slew Rate: 8.5V/µs; Supplier 1: Mouser; Supplier Part Number 1: 579-MCP2551-I/SN; Manufacturer Part Number: MCP2551-I/SN; RoHS: Yes; Category: Interface ICs; Stock 1: 27114; Pricing 1: 1=1.02000, 10=1.02000, 25=0.85000, 100=0.82500, 250=0.82500, 500=0.82500 (USD); Mount: Surface Mount; Case/Package: SOIC; Number of Pins: 8; Contact Plating: Tin,Matte; Number of Terminals: 8; Min Operating Temperature: -40°C; Max Operating Temperature: 85°C; Package Quantity: 100; Interface: CAN; Packaging: Rail/Tube; Max Supply Current: 75mA; Number of Drivers: 1; Number of Receivers: 1; Number of Transmit Buffers: 1; Number of Receive Buffers: 1; Logic Function: Transceiver; Length: 4.9mm; Height: 1.25mm; Width: 3.9mm; Radiation Hardening: No; REACH SVHC: No SVHC; Lead Free: Lead Free; ComponentLink1URL: https://datasheet.ciiva.com/8084/jp011797-8084592.pdf?src-supplier=Avnet; ComponentLink1Description: https://datasheet.ciiva.com/8084/jp011797-8084592.pdf?src-supplier=Avnet; ComponentLink2URL: https://datasheet.ciiva.com/27056/2040583-27056423.pdf?src-supplier=Jameco; ComponentLink2Description: https://datasheet.ciiva.com/27056/2040583-27056423.pdf?src-supplier=Jameco; ComponentLink3URL: https://datasheet.ciiva.com/1495/21667f-1495089.pdf?src-supplier=Element14; ComponentLink3Description: https://datasheet.ciiva.com/1495/21667f-1495089.pdf?src-supplier=Element14; ComponentLink4URL: https://datasheet.ciiva.com/1700/21667f-1700023.pdf?src-supplier=Digi-Key; ComponentLink4Description: https://datasheet.ciiva.com/1700/21667f-1700023.pdf?src-supplier=Digi-Key; ComponentLink5URL: https://datasheet.ciiva.com/14152/eb644223-644224-e-14152540.pdf?src-supplier=Distrelec; ComponentLink5Description: https://datasheet.ciiva.com/14152/eb644223-644224-e-14152540.pdf?src-supplier=Distrelec; ComponentLink6URL: https://datasheet.ciiva.com/17649/jp011797-17649039.pdf?src-supplier=Avnet+Europe; ComponentLink6Description: https://datasheet.ciiva.com/17649/jp011797-17649039.pdf?src-supplier=Avnet+Europe
footprint SOIC-SN8_N (SOIC, 8-Leads, Body 4.9x3.9mm, Pitch 1.27mm, IPC Medium Density)
pins: 1 TXD (in), 2 VSS (power), 3 VDD (power), 4 RXD (out), 5 VREF (out), 6 CANL (io), 7 CANH (io), 8 RS (in)

## MMBT3904LT1G
designator Q?
ON Semi MMBT3904LT1G NPN Bipolar Transistor, 0.2 A, 40 V, 3-Pin SOT-23; Manufacturer: ON Semiconductor; Collector Emitter Breakdown Voltage: 40V; Max Power Dissipation: 300mW; Max Collector Current: 200mA; Collector Base Voltage (VCBO): 60V; Emitter Base Voltage (VEBO): 6V; Element Configuration: Single; Transition Frequency: 300MHz; Collector Emitter Saturation Voltage: 300mV; hFE Min: 100; Number of Elements: 1; Type: General Purpose; Supplier 1: Mouser; Supplier Part Number 1: 863-MMBT3904LT1G; Manufacturer Part Number: MMBT3904LT1G; RoHS: Yes; Category: BJTs; Stock 1: 753014; Pricing 1: 1=0.12000, 10=0.10900, 100=0.03800, 1000=0.02500, 3000=0.01900, 9000=0.01700 (USD); Case/Package: SOT-23-3; Number of Pins: 3; Contact Plating: Tin,Matte; Min Operating Temperature: -55°C; Max Operating Temperature: 150°C; Packaging: Tape and Reel; Polarity: NPN; Collector Emitter Voltage (VCEO): 40V; Package Quantity: 1; Gain Bandwidth Product: 300MHz; Power Dissipation: 300mW; Max Breakdown Voltage: 40V; Voltage Rating (DC): 40V; Current Rating: 200mA; Frequency: 300MHz; Max Frequency: 300MHz; Length: 2.9mm; Height: 0.94mm; Width: 1.3mm; Radiation Hardening: No; Lead Free: Lead Free; REACH SVHC: No SVHC; ComponentLink1URL: https://datasheet.ciiva.com/16199/mmbt3904lt1-d-16199009.pdf?src-supplier=Future+Electronics; ComponentLink1Description: https://datasheet.ciiva.com/16199/mmbt3904lt1-d-16199009.pdf?src-supplier=Future+Electronics; ComponentLink2URL: https://datasheet.ciiva.com/4723/mmbt3904lt1-d-113169-4723050.pdf?src-supplier=Mouser; ComponentLink2Description: https://datasheet.ciiva.com/4723/mmbt3904lt1-d-113169-4723050.pdf?src-supplier=Mouser; ComponentLink3URL: https://datasheet.ciiva.com/15138/getdatasheetpartid-53263-15138779.pdf?src-supplier=Verical; ComponentLink3Description: https://datasheet.ciiva.com/15138/getdatasheetpartid-53263-15138779.pdf?src-supplier=Verical; ComponentLink4URL: https://datasheet.ciiva.com/976/mmbt3904lt1-d-976362.pdf?src-supplier=Digi-Key; ComponentLink4Description: https://datasheet.ciiva.com/976/mmbt3904lt1-d-976362.pdf?src-supplier=Digi-Key; ComponentLink5URL: https://datasheet.ciiva.com/16478/mmbt3904lt1-d-16478538.pdf?src-supplier=Avnet+Asia; ComponentLink5Description: https://datasheet.ciiva.com/16478/mmbt3904lt1-d-16478538.pdf?src-supplier=Avnet+Asia; ComponentLink6URL: https://datasheet.ciiva.com/976/mmbt3904lt1-d-976363.pdf?src-supplier=Digi-Key; ComponentLink6Description: https://datasheet.ciiva.com/976/mmbt3904lt1-d-976363.pdf?src-supplier=Digi-Key; ComponentLink7URL: https://datasheet.ciiva.com/11199/mmbt3904lt1-d-11199003.pdf?src-supplier=Avnet; ComponentLink7Description: https://datasheet.ciiva.com/11199/mmbt3904lt1-d-11199003.pdf?src-supplier=Avnet; ComponentLink8URL: https://datasheet.ciiva.com/976/mmbt3904lt1-d-976364.pdf?src-supplier=Digi-Key; ComponentLink8Description: https://datasheet.ciiva.com/976/mmbt3904lt1-d-976364.pdf?src-supplier=Digi-Key; ComponentLink9URL: https://datasheet.ciiva.com/14546/70099530-14546188.pdf?src-supplier=Allied+Electronics; ComponentLink9Description: https://datasheet.ciiva.com/14546/70099530-14546188.pdf?src-supplier=Allied+Electronics; ComponentLink10URL: https://datasheet.ciiva.com/7972/1708269-7972381.pdf?src-supplier=Element14; ComponentLink10Description: https://datasheet.ciiva.com/7972/1708269-7972381.pdf?src-supplier=Element14; ComponentLink11URL: https://datasheet.ciiva.com/22664/1708269-22664159.pdf?src-supplier=Element14; ComponentLink11Description: https://datasheet.ciiva.com/22664/1708269-22664159.pdf?src-supplier=Element14
footprint ONSC-SOT-23-3-318-08_V (SOT23, 3-Leads, Body 2.92x1.3mm, Pitch 0.95mm)
pins: 1 B, 2 E, 3 C